# Altium schematic symbol library SCH - MCU - STM32 - ST MICROELECTRONICS STM32L051K(6-8)TX LQFP32.SchLib: 1 symbol
Pins are listed as number, name and electrical type; pins without a type are passive.

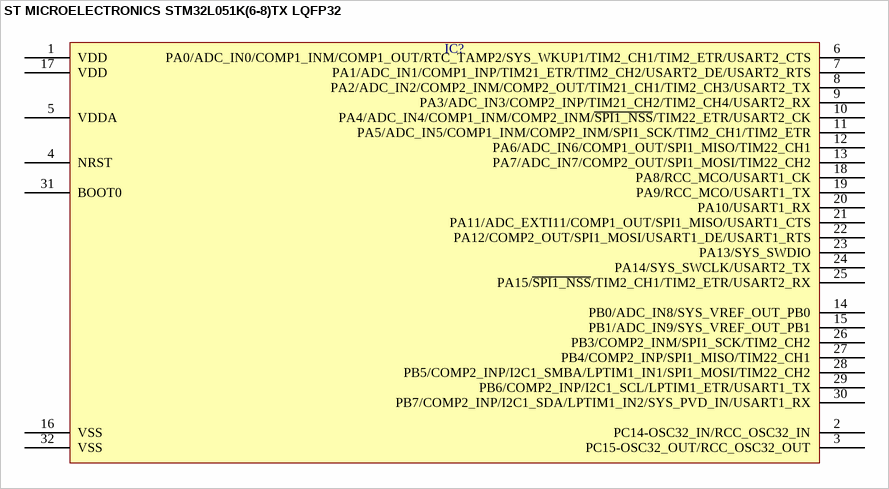
[diagram p0: symbol ST MICROELECTRONICS STM32L051K(6-8)TX LQFP32]

## ST MICROELECTRONICS STM32L051K(6-8)TX LQFP32
designator IC?  (value not drawn)
pins: 1 VDD, 2 PC14-OSC32_IN/RCC_OSC32_IN, 3 PC15-OSC32_OUT/RCC_OSC32_OUT, 4 NRST, 5 VDDA, 6 PA0/ADC_IN0/COMP1_INM/COMP1_OUT/RTC_TAMP2/SYS_WKUP1/TIM2_CH1/TIM2_ETR/USART2_CTS, 7 PA1/ADC_IN1/COMP1_INP/TIM21_ETR/TIM2_CH2/USART2_DE/USART2_RTS, 8 PA2/ADC_IN2/COMP2_INM/COMP2_OUT/TIM21_CH1/TIM2_CH3/USART2_TX, 9 PA3/ADC_IN3/COMP2_INP/TIM21_CH2/TIM2_CH4/USART2_RX, 10 PA4/ADC_IN4/COMP1_INM/COMP2_INM/~{SPI1_NSS}/TIM22_ETR/USART2_CK, 11 PA5/ADC_IN5/COMP1_INM/COMP2_INM/SPI1_SCK/TIM2_CH1/TIM2_ETR, 12 PA6/ADC_IN6/COMP1_OUT/SPI1_MISO/TIM22_CH1, 13 PA7/ADC_IN7/COMP2_OUT/SPI1_MOSI/TIM22_CH2, 14 PB0/ADC_IN8/SYS_VREF_OUT_PB0, 15 PB1/ADC_IN9/SYS_VREF_OUT_PB1, 16 VSS, 17 VDD, 18 PA8/RCC_MCO/USART1_CK, 19 PA9/RCC_MCO/USART1_TX, 20 PA10/USART1_RX, 21 PA11/ADC_EXTI11/COMP1_OUT/SPI1_MISO/USART1_CTS, 22 PA12/COMP2_OUT/SPI1_MOSI/USART1_DE/USART1_RTS, 23 PA13/SYS_SWDIO, 24 PA14/SYS_SWCLK/USART2_TX, 25 PA15/~{SPI1_NSS}/TIM2_CH1/TIM2_ETR/USART2_RX, 26 PB3/COMP2_INM/SPI1_SCK/TIM2_CH2, 27 PB4/COMP2_INP/SPI1_MISO/TIM22_CH1, 28 PB5/COMP2_INP/I2C1_SMBA/LPTIM1_IN1/SPI1_MOSI/TIM22_CH2, 29 PB6/COMP2_INP/I2C1_SCL/LPTIM1_ETR/USART1_TX, 30 PB7/COMP2_INP/I2C1_SDA/LPTIM1_IN2/SYS_PVD_IN/USART1_RX, 31 BOOT0, 32 VSS